# EAGLE library part CSG6567 (library 65xxx)
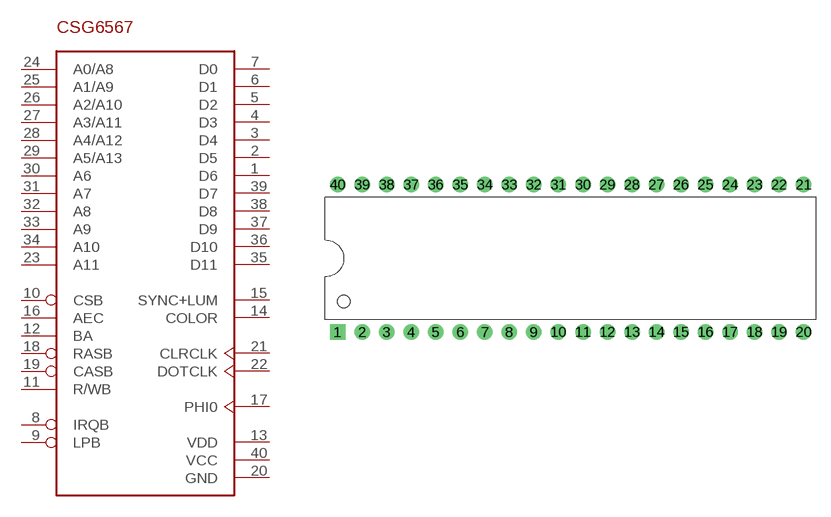
[diagram p6: symbol with the pads of DIP-40; footprint DIP-40]

Designator prefix -

## CSG6567  [DIP-40]
1  D6
2  D5
3  D4
4  D3
5  D2
6  D1
7  D0
8  IRQB  oc
9  LPB  in
10  CSB  in
11  R/WB  in
12  BA  out
13  VDD  pwr
14  COLOR  out
15  SYNC+LUM  out
16  AEC  out
17  PHI0  out
18  RASB  out
19  CASB  out
20  GND  pwr
21  CLRCLK  in
22  DOTCLK  in
23  A11  out
24  A0/A8
25  A1/A9
26  A2/A10
27  A3/A11
28  A4/A12
29  A5/A13
30  A6
31  A7
32  A8  out
33  A9  out
34  A10  out
35  D11  in
36  D10  in
37  D9  in
38  D8  in
39  D7
40  VCC  pwr

## Footprint DIP-40 (pad centres in mm)
40-Pin DIP, 0.6" Wide
drill 0.889 pad 1.6 square: 1 -22.86,-7.62
drill 0.889 pad 1.6: 2 -20.32,-7.62; 3 -17.78,-7.62; 4 -15.24,-7.62; 5 -12.7,-7.62; 6 -10.16,-7.62; 7 -7.62,-7.62; 8 -5.08,-7.62; 9 -2.54,-7.62; 10 0,-7.62; 11 2.54,-7.62; 12 5.08,-7.62; 13 7.62,-7.62; 14 10.16,-7.62; 15 12.7,-7.62; 16 15.24,-7.62; 17 17.78,-7.62; 18 20.32,-7.62; 19 22.86,-7.62; 20 25.4,-7.62; 21 25.4,7.62; 22 22.86,7.62; 23 20.32,7.62; 24 17.78,7.62; 25 15.24,7.62; 26 12.7,7.62; 27 10.16,7.62; 28 7.62,7.62; 29 5.08,7.62; 30 2.54,7.62; 31 0,7.62; 32 -2.54,7.62; 33 -5.08,7.62; 34 -7.62,7.62; 35 -10.16,7.62; 36 -12.7,7.62; 37 -15.24,7.62; 38 -17.78,7.62; 39 -20.32,7.62; 40 -22.86,7.62